# Altium footprint library SN74AXC1T45DEAR.PcbLib: 1 footprints
Each footprint in its own frame and in the unit in brackets; x right, y up, seen from the top. Pads: shape width x height; smd on the part's side, far side on the other; paste and mask are expansions set on the pad; w line width, h text height; cw(c..) or ccw(c..) is an arc to the next point about the centre after c.
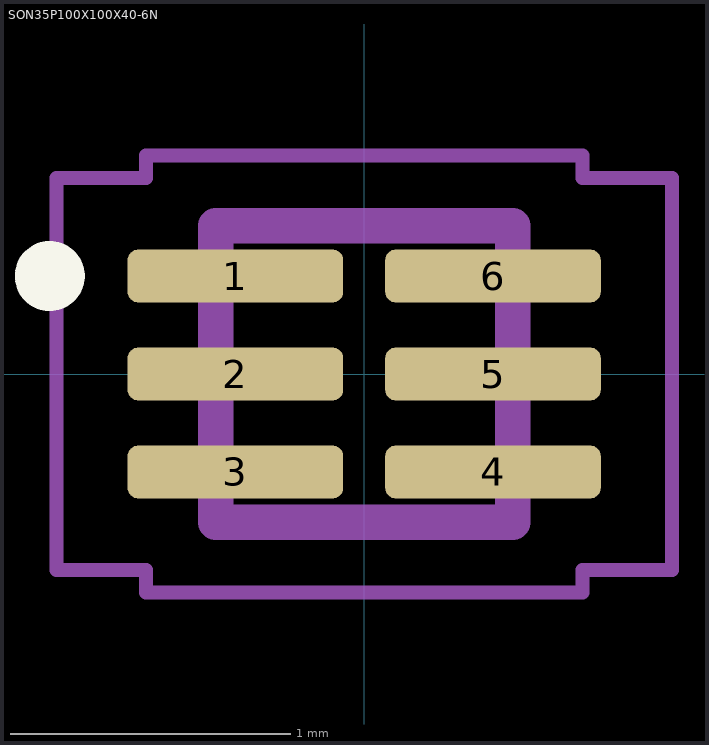
[diagram p0: the footprint, top view; thin cyan lines are the x and y axes]

## SON35P100X100X40-6N [mm]
pads (6):
  rrect40% 0.77x0.19 smd: 1(-0.46,0.35) 2(-0.46,0) 3(-0.46,-0.35) 4(0.46,-0.35) 5(0.46,0) 6(0.46,0.35)
Top Overlay:
  circle w0.15: c-1.123,0.35 r0.05
Mechanical 13:
  lines w0.127: -0.53,-0.53 0.53,-0.53 0.53,0.53 -0.53,0.53 -0.53,-0.53
Mechanical 15:
  lines w0.05: -1.1,-0.7 -0.78,-0.7 -0.78,-0.78 0.78,-0.78 0.78,-0.7 1.1,-0.7 1.1,0.7 0.78,0.7 0.78,0.78 -0.78,0.78 -0.78,0.7 -1.1,0.7 -1.1,-0.7